# Altium footprint library SAMTEC_DWM-03-X-X-S-X.PcbLib: 1 footprints
Each footprint in its own frame and in the unit in brackets; x right, y up, seen from the top. Pads: shape width x height; smd on the part's side, far side on the other; paste and mask are expansions set on the pad; w line width, h text height; cw(c..) or ccw(c..) is an arc to the next point about the centre after c.
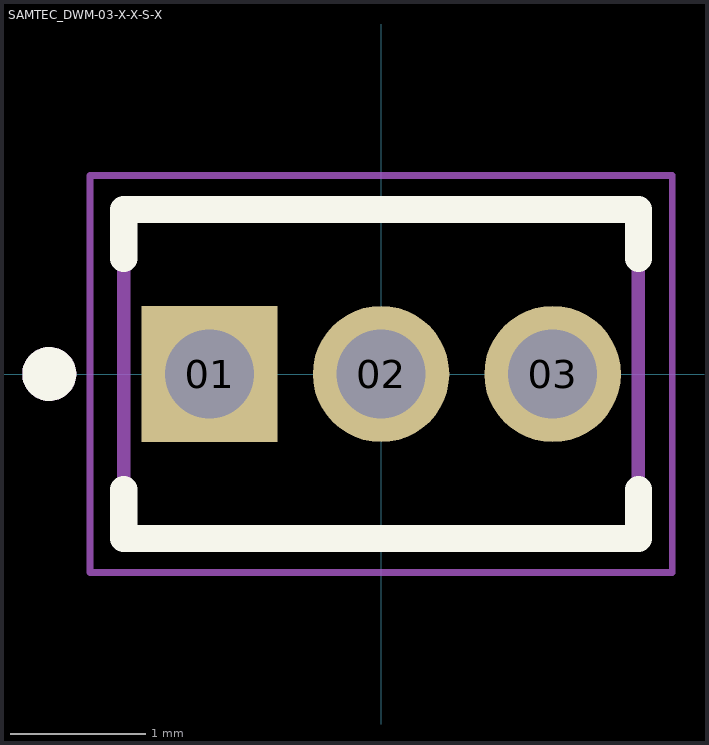
[diagram p0: the footprint, top view; thin cyan lines are the x and y axes]

## SAMTEC_DWM-03-X-X-S-X [mm]
pads (3):
  rect 1.01x1.01 hole 0.66: 01(-1.27,0)
  round 1.01 hole 0.66: 02(0,0) 03(1.27,0)
Top Overlay:
  circle w0.2: c-2.456,0 r0.1
  lines w0.2: -1.905,-0.855 -1.905,-1.219 1.905,-1.219 1.905,-0.855 ; -1.905,0.855 -1.905,1.219 1.905,1.219 1.905,0.855
Mechanical 13:
  circle w0.2: c-2.456,0 r0.1
  lines w0.1: -1.905,-1.219 1.905,-1.219 1.905,1.219 -1.905,1.219 -1.905,-1.219
Mechanical 15:
  lines w0.05: -2.155,-1.469 2.155,-1.469 2.155,1.469 -2.155,1.469 -2.155,-1.469